# Altium schematic symbol library 0901200122.SchLib: 1 symbol
Pins are listed as number, name and electrical type; pins without a type are passive.

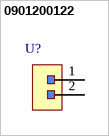
[diagram p0: symbol 0901200122]

## 0901200122
designator U?
=Description
pins: 1, 2